# Altium schematic symbol library POLYLINE_ARROW_TEST.SchLib: 1 symbol
Pins are listed as number, name and electrical type; pins without a type are passive.

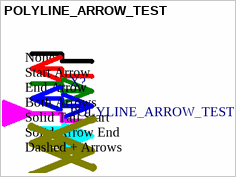
[diagram p0: symbol POLYLINE_ARROW_TEST]

## POLYLINE_ARROW_TEST
designator X?
Test polyline arrow shapes
text: None; Start Arrow; End Arrow; Both Arrows; Solid Tail Start; Solid Arrow End; Dashed + Arrows